# Altium integrated library TPS628502QDRLRQ1.IntLib: 1 symbol
Pins are listed as number, name and electrical type; pins without a type are passive.

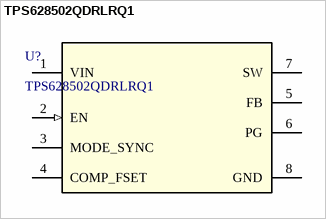
[diagram p0: symbol TPS628502QDRLRQ1]

## TPS628502QDRLRQ1
designator U?
2.7-V to 6-V, 2-A automotive step-down converter in SOT583 package 8-SOT-5X3 -40 to 125; Manufacturer_Name: Texas Instruments; TYPE: TYPE; RefDes: RefDes; Copyright: Copyright (C) 2026 Ultra Librarian. All rights reserved.; Manufacturer_Part_Number: TPS628502QDRLRQ1; Datasheet: https://www.ti.com/lit/gpn/tps628502-q1
footprint DRL0008A-MFG
pins: 1 VIN (power), 2 EN (in), 3 MODE_SYNC, 4 COMP_FSET, 5 FB, 6 PG (oc), 7 SW, 8 GND (power)